# Altium schematic symbol library 12pf_capacitor_0805_Components - 15.03.22 - 13.55.SchLib: 1 symbol
Pins are listed as number, name and electrical type; pins without a type are passive.

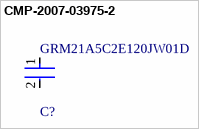
[diagram p0: symbol CMP-2007-03975-2]

## CMP-2007-03975-2
designator C?, comment GRM21A5C2E120JW01D
Chip Multilayer Ceramic Capacitors for General Purpose, 0805, 12pF, C0G, 30ppm/°C, 5%, 250V; Max Operating Temperature: 125°C; Package Quantity: 1; Voltage Rating (DC): 250V; Dielectric: C0G; Thickness: 0.039inch; Min Operating Temperature: -55°C; Width: 0.049inch; Termination: SMD/SMT; Radiation Hardening: No; Case Code (Metric): 2012; Capacitance: 12pF; Depth: 1.25mm; Tolerance: 5%; Case/Package: 0805; Length: 2mm; Packaging: Tape and Reel; REACH SVHC: No SVHC; Height: 1mm; Mount: Surface Mount; Voltage Rating: 250V; Case Code (Imperial): 0805
footprint FP-GRM21A-0_2-MFG
footprint FP-GRM21A-0_2-IPC_A
footprint FP-GRM21A-0_2-IPC_B
footprint FP-GRM21A-0_2-IPC_C
pins: 1, 2